# EAGLE library part TL072 (library magzor)
dual JFET input op amp (you could also use this for other SO-8/SOIC-8 dual op amps)
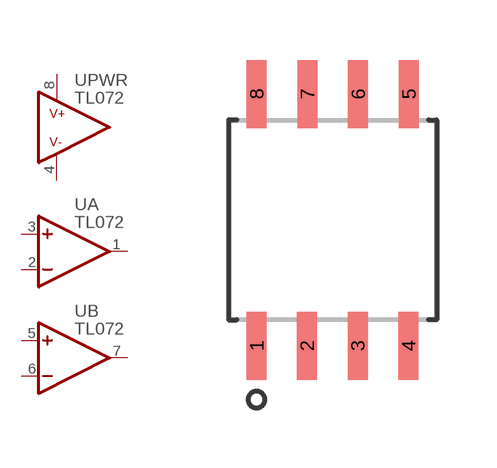
[diagram p42: symbol with the pads of SOIC8; footprint SOIC8]

Designator prefix U; gates PWR=OP-AMP-PWR A=OP-AMP B=OP-AMP

## TL072D  [SOIC8]
1  A:OUT
2  A:IN-
3  A:IN+
4  PWR:V-
5  B:IN+
6  B:IN-
7  B:OUT
8  PWR:V+

## Footprint SOIC8 (pad centres in mm)
smd 0.5 x 1.7: 1 -1.905,-3.15; 2 -0.645,-3.15; 3 0.625,-3.15; 4 1.895,-3.15; 5 1.905,3.15; 6 0.635,3.15; 7 -0.635,3.15; 8 -1.905,3.15